# EAGLE library part DC_DC_NMSC (library lbm)
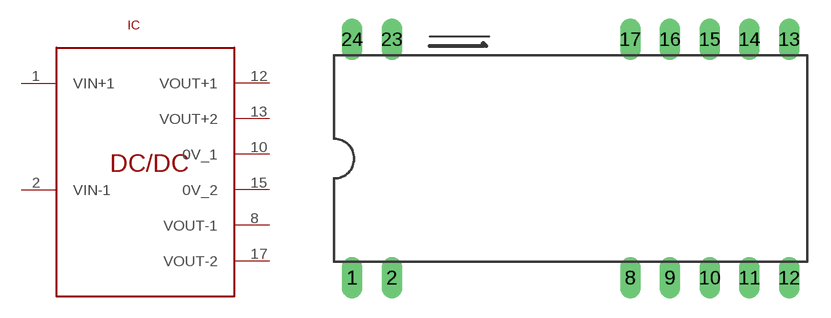
[diagram p8: symbol with the pads of DIL_NMSC_DCDC; footprint DIL_NMSC_DCDC]

Designator prefix IC

## DC_DC_NMSC  [DIL_NMSC_DCDC]
1  VIN+1
2  VIN-1
8  VOUT-1
10  0V_1
12  VOUT+1
13  VOUT+2
15  0V_2
17  VOUT-2

## Footprint DIL_NMSC_DCDC (pad centres in mm)
drill 0.813 long: 1 -13.97,-7.62; 2 -11.43,-7.62; 8 3.81,-7.62; 9 6.35,-7.62; 10 8.89,-7.62; 11 11.43,-7.62; 12 13.97,-7.62; 13 13.97,7.62; 14 11.43,7.62; 15 8.89,7.62; 16 6.35,7.62; 17 3.81,7.62; 23 -11.43,7.62; 24 -13.97,7.62